# Altium schematic symbol library power_connector.SchLib: 6 symbols
Pins are listed as number, name and electrical type; pins without a type are passive.

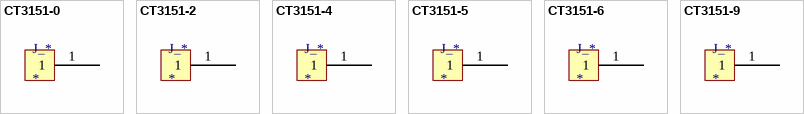
[diagram p0: symbols CT3151-0 to CT3151-9]

## CT3151-0
designator J_*
BLACK BANANA JACK
pins: 1

## CT3151-2
designator J_*
RED BANANA JACK
pins: 1

## CT3151-4
designator J_*
YELLOW BANANA JACK
pins: 1

## CT3151-5
designator J_*
GREEN BANANA JACK
pins: 1

## CT3151-6
designator J_*
BLUE BANANA JACK
pins: 1

## CT3151-9
designator J_*
WHITE BANANA JACK
pins: 1